# Altium footprint library ConnectorsLib.PcbLib: 142 footprints (part 3 of 9)
Each footprint in its own frame and in the unit in brackets; x right, y up, seen from the top. Pads: shape width x height; smd on the part's side, far side on the other; paste and mask are expansions set on the pad; w line width, h text height; cw(c..) or ccw(c..) is an arc to the next point about the centre after c.
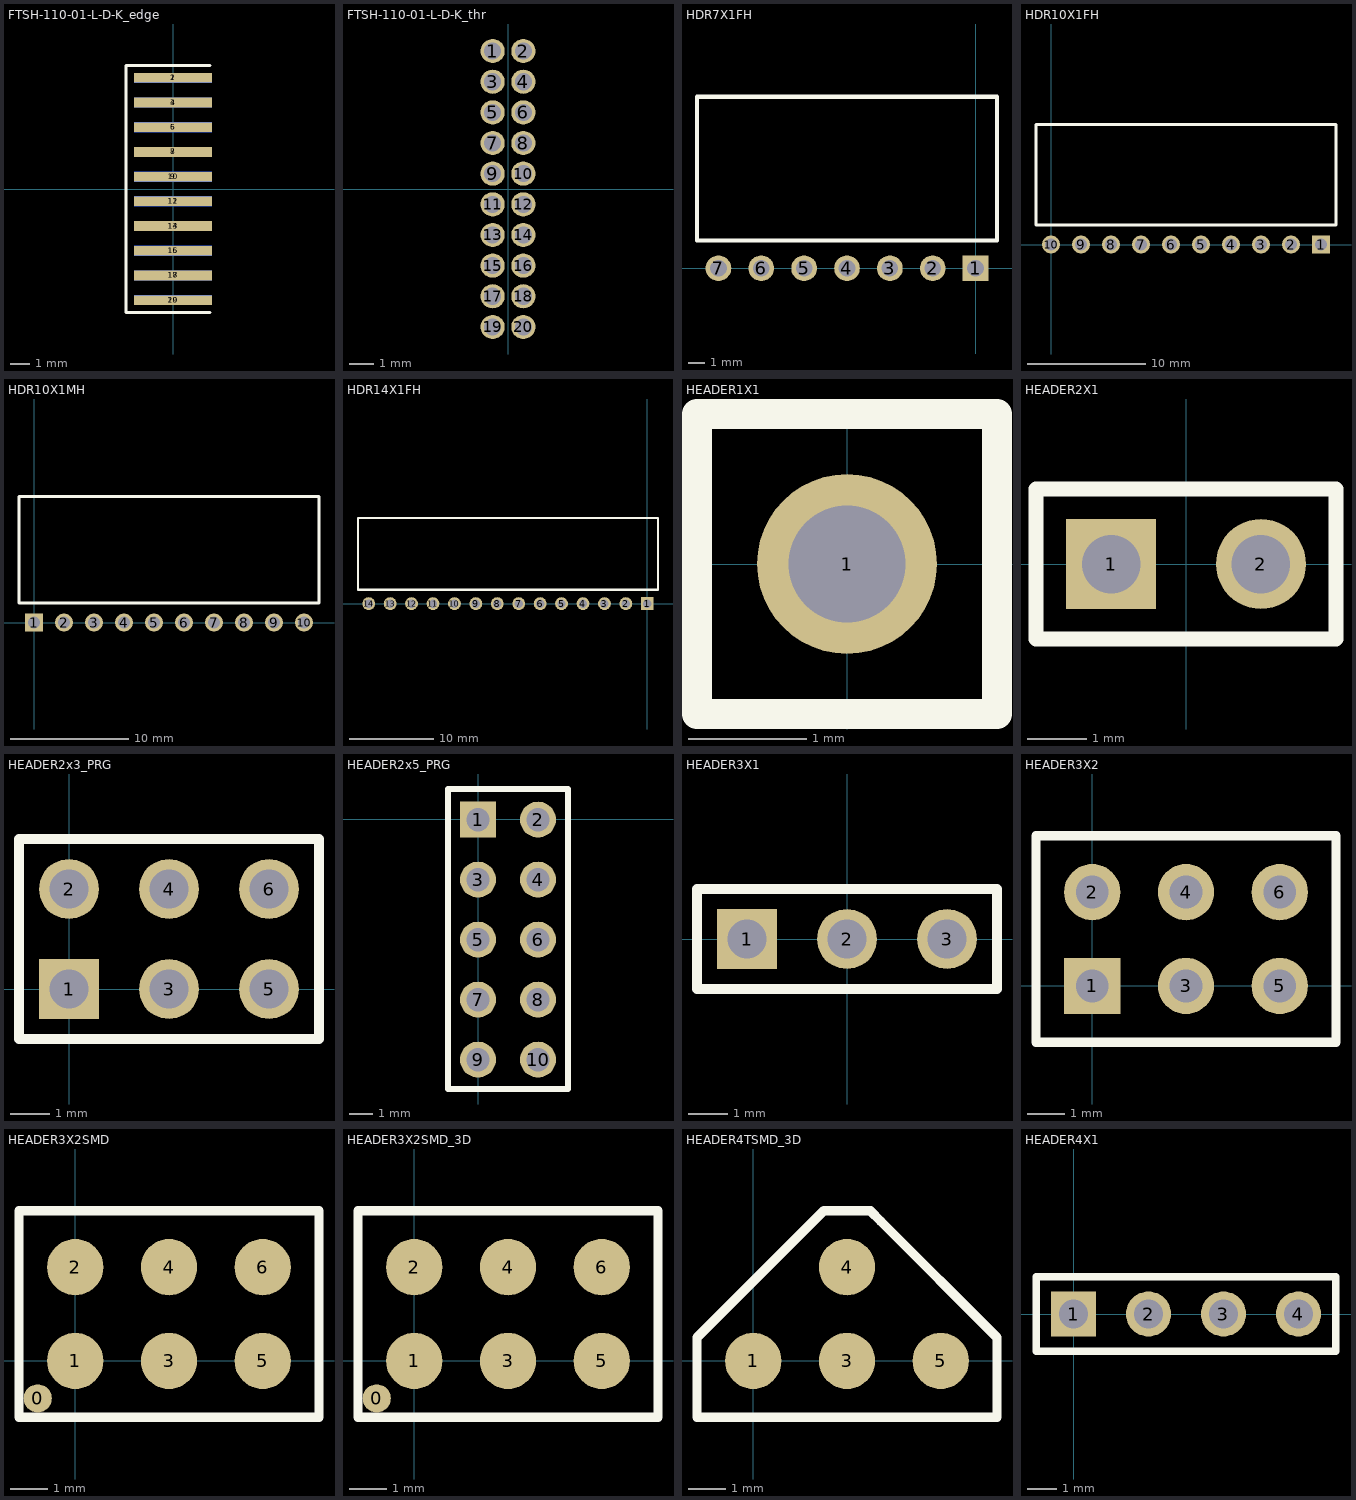
[diagram p2: the footprints below, top view; thin cyan lines are the x and y axes]

## FTSH-110-01-L-D-K_edge [mm] "Connector Header Through Hole 20 position 0.050\" (1.27mm)"
pads (20):
  rect 4x0.5 smd: 1(0,5.715) 3(0,4.445) 5(0,3.175) 7(0,1.905) 9(0,0.635) 11(0,-0.635) 13(0,-1.905) 15(0,-3.175) 17(0,-4.445) 19(0,-5.715)
  rect 4x0.5 smd far side: 2(0,5.715) 4(0,4.445) 6(0,3.175) 8(0,1.905) 10(0,0.635) 12(0,-0.635) 14(0,-1.905) 16(0,-3.175) 18(0,-4.445) 20(0,-5.715)
Top Overlay:
  lines w0.152: 1.905,-6.35 -2.413,-6.35 -2.413,6.35 1.905,6.35
Bottom Overlay:
  lines w0.152: 1.905,-6.35 -2.413,-6.35 -2.413,6.35 1.905,6.35
3D body: height 0.25, standoff 0, extent 2.667,4.699 2.667,4.699
3D body: height 0.25, standoff 0, extent 2.667,4.699 2.667,4.699
3D body: height 2.54, standoff -2.54, extent 0,-6.35 8.001,6.35

## FTSH-110-01-L-D-K_thr [mm] "Connector Header Through Hole 20 position 0.050\" (1.27mm)"
pads (20):
  round 1 hole 0.71: 1(-0.635,5.715) 2(0.635,5.715) 3(-0.635,4.445) 4(0.635,4.445) 5(-0.635,3.175) 6(0.635,3.175) 7(-0.635,1.905) 8(0.635,1.905) 9(-0.635,0.635) 10(0.635,0.635) 11(-0.635,-0.635) 12(0.635,-0.635) 13(-0.635,-1.905) 14(0.635,-1.905) 15(-0.635,-3.175) 16(0.635,-3.175) 17(-0.635,-4.445) 18(0.635,-4.445) 19(-0.635,-5.715) 20(0.635,-5.715)
3D body: height 1.85, standoff -6.15, extent -2.54,-6.35 2.54,6.35

## HDR7X1FH [mil]
pads (7):
  rect 60x60 hole 39: 1(0,0)
  round 60 hole 39: 2(-100,0) 3(-200,0) 4(-300,0) 5(-400,0) 6(-500,0) 7(-600,0)
Top Overlay:
  lines w10: -650,65 -650,400 50,400 50,65 -650,65

## HDR10X1FH [mil]
pads (10):
  rect 60x60 hole 39: 1(900,0)
  round 60 hole 39: 2(800,0) 3(700,0) 4(600,0) 5(500,0) 6(400,0) 7(300,0) 8(200,0) 9(100,0) 10(0,0)
Top Overlay:
  lines w10: -50,65 -50,400 950,400 950,65 -50,65

## HDR10X1MH [mil]
pads (10):
  rect 60x60 hole 39: 1(0,0)
  round 60 hole 39: 2(100,0) 3(200,0) 4(300,0) 5(400,0) 6(500,0) 7(600,0) 8(700,0) 9(800,0) 10(900,0)
Top Overlay:
  lines w10: -50,65 -50,420 950,420 950,65 -50,65

## HDR14X1FH [mil]
pads (14):
  rect 60x60 hole 39: 1(0,0)
  round 60 hole 39: 2(-100,0) 3(-200,0) 4(-300,0) 5(-400,0) 6(-500,0) 7(-600,0) 8(-700,0) 9(-800,0) 10(-900,0) 11(-1000,0) 12(-1100,0) 13(-1200,0) 14(-1300,0)
Top Overlay:
  lines w10: -1350,65 50,65 50,400 -1350,400 -1350,65

## HEADER1X1 [mil]
pads (1):
  round 60 hole 39: 1(0,0)
Top Overlay:
  lines w10: -50,-50 50,-50 50,50 -50,50 -50,-50

## HEADER2X1 [mil]
pads (2):
  rect 60x60 hole 39: 1(-50,0)
  round 60 hole 39: 2(50,0)
Top Overlay:
  lines w10: -100,-50 -100,50 100,50 100,-50 -100,-50
3D body: height 295.28, standoff -149.61, extent -100,-50 100,48.43

## HEADER2x3_PRG [mil] "Header programmator 2 x 3 pins"
pads (6):
  rect 60x60 hole 39: 1(0,0)
  round 60 hole 39: 2(0,100) 3(100,0) 4(100,100) 5(200,0) 6(200,100)
Top Overlay:
  lines w10: -50,-50 -50,150 250,150 250,-50 -50,-50

## HEADER2x5_PRG [mil] "Header programmator 2 x 5 pins"
pads (10):
  rect 60x60 hole 39: 1(0,-1)
  round 60 hole 39: 2(100,-1) 3(0,-101) 4(100,-101) 5(0,-201) 6(100,-201) 7(0,-301) 8(100,-301) 9(0,-401) 10(100,-401)
Top Overlay:
  lines w10: -50,-450 150,-450 150,50 -50,50 -50,-450

## HEADER3X1 [mil]
pads (3):
  rect 60x60 hole 39: 1(-100,0)
  round 60 hole 39: 2(0,0) 3(100,0)
Top Overlay:
  lines w10: -150,-50 -150,50 150,50 150,-50 -150,-50
3D body: height 295.28, standoff -149.61, extent -150,-50 150,48.43

## HEADER3X2 [mil]
pads (6):
  rect 60x60 hole 35: 1(0,0)
  round 60 hole 35: 2(0,100) 3(100,0) 4(100,100) 5(200,0) 6(200,100)
Top Overlay:
  lines w10: -60,-60 -60,160 260,160 260,-60 -60,-60

## HEADER3X2SMD [mil]
pads (7):
  round 30 smd: 0(-40,-40)
  round 60 smd: 1(0,0) 2(0,100) 3(100,0) 4(100,100) 5(200,0) 6(200,100)
Top Overlay:
  lines w10: -60,-60 -60,160 260,160 260,-60 -60,-60

## HEADER3X2SMD_3D [mil]
pads (7):
  round 30 smd: 0(-40,-40)
  round 60 smd: 1(0,0) 2(0,100) 3(100,0) 4(100,100) 5(200,0) 6(200,100)
Top Overlay:
  lines w10: -60,-60 260,-60 260,160 -60,160 -60,-60
3D body: height 160, standoff 150, extent -35.86,64.07 35.85,135.93
3D body: height 60, standoff 0, extent -15.03,85.03 14.85,114.97
3D body: height 160, standoff 150, extent 64.14,64.07 135.85,135.93
3D body: height 60, standoff 0, extent 84.97,85.03 114.85,114.97
3D body: height 160, standoff 150, extent 164.14,64.07 235.85,135.93
3D body: height 60, standoff 0, extent 184.97,85.03 214.85,114.97
3D body: height 160, standoff 150, extent 164.14,-35.93 235.85,35.93
3D body: height 60, standoff 0, extent 184.97,-14.97 214.85,14.97
3D body: height 160, standoff 150, extent 64.14,-35.93 135.85,35.93
3D body: height 60, standoff 0, extent 84.97,-14.97 114.85,14.97
3D body: height 60, standoff 0, extent -15.03,-14.97 14.85,14.97
3D body: height 160, standoff 150, extent -35.86,-35.93 35.85,35.93
3D body: height 150, standoff 60, extent -50,-50 250,150

## HEADER4TSMD_3D [mil]
pads (4):
  round 60 smd: 1(0,0) 3(100,0) 4(100,100) 5(200,0)
Top Overlay:
  lines w10: -60,-60 -60,25 75,160 125,160 136,149 260,25 260,-60 -60,-60
3D body: height 150, standoff 60, extent -50,-50 250,150
3D body: height 160, standoff 150, extent -35.86,-35.93 35.85,35.93
3D body: height 60, standoff 0, extent -15.03,-14.97 14.85,14.97
3D body: height 60, standoff 0, extent 84.97,-14.97 114.85,14.97
3D body: height 160, standoff 150, extent 64.14,-35.93 135.85,35.93
3D body: height 60, standoff 0, extent 184.97,-14.97 214.85,14.97
3D body: height 160, standoff 150, extent 164.14,-35.93 235.85,35.93
3D body: height 60, standoff 0, extent 84.97,85.03 114.85,114.97
3D body: height 160, standoff 150, extent 64.14,64.07 135.85,135.93

## HEADER4X1 [mil]
pads (4):
  rect 60x60 hole 39: 1(0,0)
  round 60 hole 39: 2(100,0) 3(200,0) 4(300,0)
Top Overlay:
  lines w10: -50,-50 350,-50 350,50 -50,50 -50,-50